# EAGLE library part 87264-40 (library untitled)
RECEPTACAL
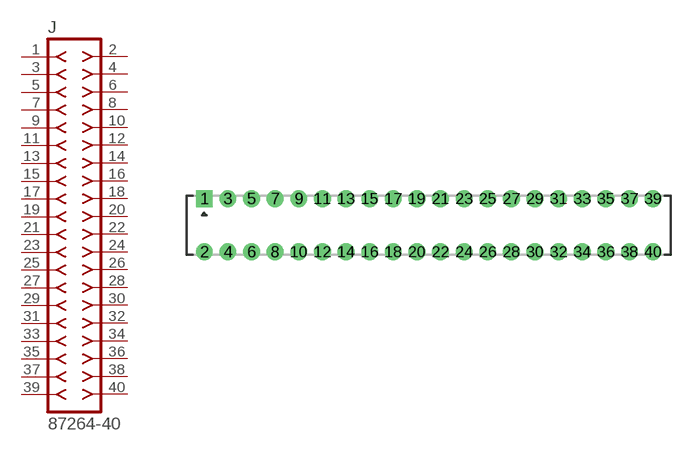
[diagram p221: symbol with the pads of 87264-40; footprint 87264-40]

Designator prefix J

## 87264-40  [87264-40]
1  1  pas
2  2  pas
3  3  pas
4  4  pas
5  5  pas
6  6  pas
7  7  pas
8  8  pas
9  9  pas
10  10  pas
11  11  pas
12  12  pas
13  13  pas
14  14  pas
15  15  pas
16  16  pas
17  17  pas
18  18  pas
19  19  pas
20  20  pas
21  21  pas
22  22  pas
23  23  pas
24  24  pas
25  25  pas
26  26  pas
27  27  pas
28  28  pas
29  29  pas
30  30  pas
31  31  pas
32  32  pas
33  33  pas
34  34  pas
35  35  pas
36  36  pas
37  37  pas
38  38  pas
39  39  pas
40  40  pas

## Footprint 87264-40 (pad centres in mm)
RECEPTACAL Dual Row, Side Entry
drill 0.914 square: 1 -19,2.25
drill 0.914 round: 2 -19,-2.25; 3 -17,2.25; 4 -17,-2.25; 5 -15,2.25; 6 -15,-2.25; 7 -13,2.25; 8 -13,-2.25; 9 -11,2.25; 10 -11,-2.25; 11 -9,2.25; 12 -9,-2.25; 13 -7,2.25; 14 -7,-2.25; 15 -5,2.25; 16 -5,-2.25; 17 -3,2.25; 18 -3,-2.25; 19 -1,2.25; 20 -1,-2.25; 21 1,2.25; 22 1,-2.25; 23 3,2.25; 24 3,-2.25; 25 5,2.25; 26 5,-2.25; 27 7,2.25; 28 7,-2.25; 29 9,2.25; 30 9,-2.25; 31 11,2.25; 32 11,-2.25; 33 13,2.25; 34 13,-2.25; 35 15,2.25; 36 15,-2.25; 37 17,2.25; 38 17,-2.25; 39 19,2.25; 40 19,-2.25